# Altium footprint library HLKPM03.PcbLib: 1 footprints
Each footprint in its own frame and in the unit in brackets; x right, y up, seen from the top. Pads: shape width x height; smd on the part's side, far side on the other; paste and mask are expansions set on the pad; w line width, h text height; cw(c..) or ccw(c..) is an arc to the next point about the centre after c.
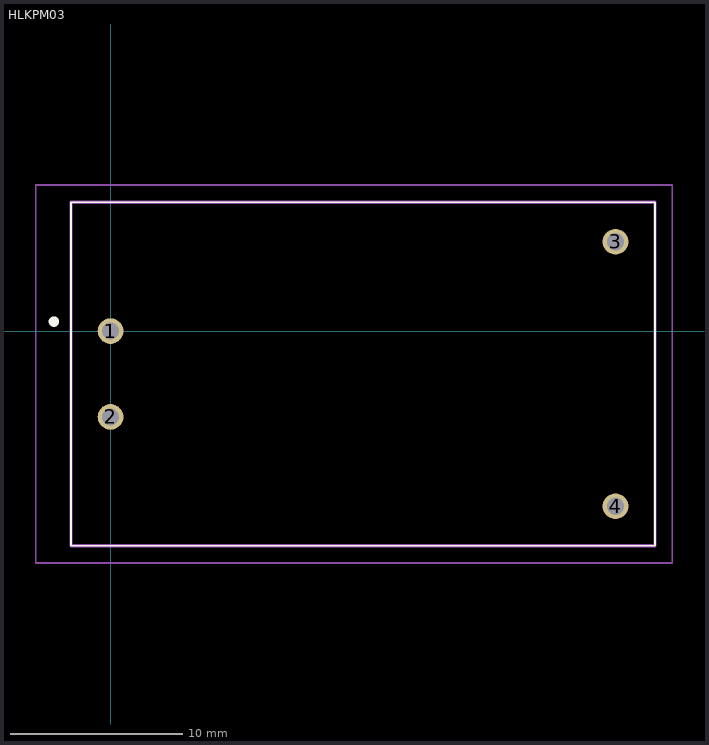
[diagram p0: the footprint, top view; thin cyan lines are the x and y axes]

## HLKPM03 [mm]
pads (4):
  round 1.5 hole 1: 1(0,0) 2(0,-5) 3(29.4,5.2) 4(29.4,-10.2)
Top Overlay:
  lines w0.1: -2.3,-12.5 -2.3,7.5 31.7,7.5 31.7,-12.5 -2.3,-12.5
  lines w0.5: -3.3,0.5 cw(c-3.3,0.55) -3.3,0.6 cw(c-3.3,0.55) -3.3,0.5
Mechanical 15:
  lines w0.2: -2.3,-12.5 -2.3,7.5 31.7,7.5 31.7,-12.5 -2.3,-12.5
Mechanical 20:
  lines w0.1: -4.35,-13.5 -4.35,8.5 32.7,8.5 32.7,-13.5 -4.35,-13.5
3D body "HLK-PM03.stp": height 15.05, standoff -5, extent -2.268,-12.54 31.732,7.46